# EAGLE library part LT1074 (library 0_MyTempLIB)
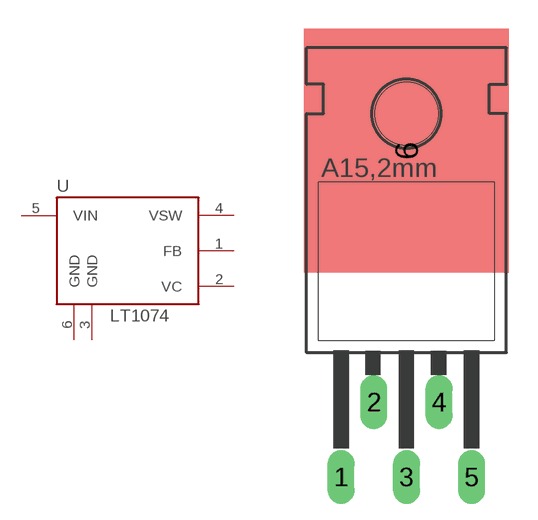
[diagram p10: symbol with the pads of TO220-5_L1; footprint TO220-5_L1]

Designator prefix U

## LT1074  [TO220-5_L1]
1  FB  in
2  VC  pas
3  GND  pwr
4  VSW  pwr
5  VIN  pwr
6  GND  pas

## Footprint TO220-5_L1 (pad centres in mm)
VOLTAGE REGULATOR
drill 0.9 long: 1 -3.4,0.007; 2 -1.7,3.907; 3 0,0.007; 4 1.7,3.907; 5 3.4,0.007
smd 10.668 x 12.7: 6 0,17.018
hole 3.302 at 0,18.948